# EAGLE library part TM335AM (library DSDEagleLibrary)
LM335AM - Analog Temperature Sensor -40 deg C to 100 deg C range
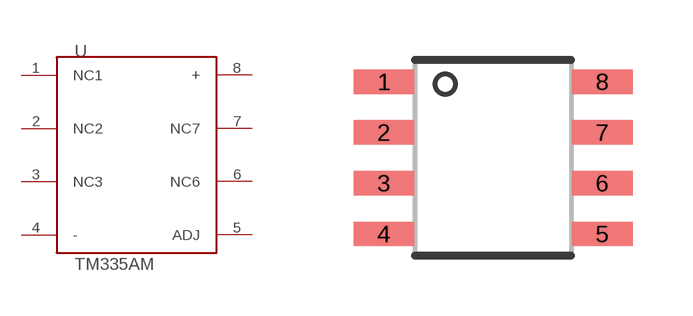
[diagram p60: symbol with the pads of SOIC-8; footprint SOIC-8]

Designator prefix U

## TM335AM  [SOIC-8]
1  NC1
2  NC2
3  NC3
4  -
5  ADJ
6  NC6
7  NC7
8  +

## Footprint SOIC-8 (pad centres in mm)
smd 1.524 x 0.61: 1 -2.68,1.855; 2 -2.68,0.585; 3 -2.68,-0.685; 4 -2.68,-1.955; 5 2.78,-1.955; 6 2.78,-0.685; 7 2.78,0.585; 8 2.78,1.855